# Altium footprint library currentmode_buck.PCBLIB: 19 footprints (part 2 of 2)
Each footprint in its own frame and in the unit in brackets; x right, y up, seen from the top. Pads: shape width x height; smd on the part's side, far side on the other; paste and mask are expansions set on the pad; w line width, h text height; cw(c..) or ccw(c..) is an arc to the next point about the centre after c.
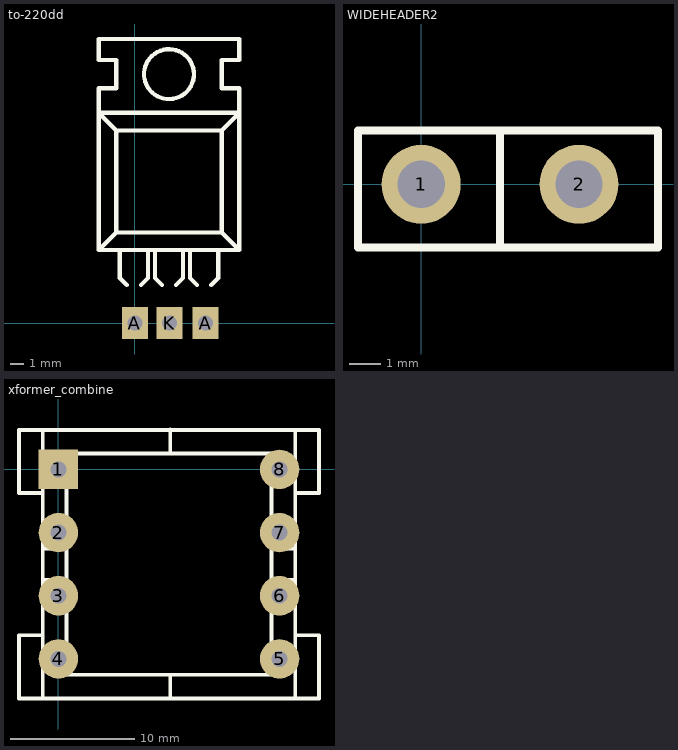
[diagram p1: the footprints below, top view; thin cyan lines are the x and y axes]

## to-220dd [mm]
pads (3):
  rect 1.9x2.3 hole 1.1: A(0,0) A(5.1,0) K(2.5,0)
TopOverlay:
  circle w0.305: c2.46,17.984 r1.803
  lines w0.305: -2.493,5.411 -1.35,6.554 ; -1.096,5.284 -1.096,3.252 -0.588,2.744 ; 0.428,2.744 0.936,3.252 0.936,5.284 ; 1.444,5.284 1.444,3.252 1.952,2.744 ; 2.968,2.744 3.476,3.252 3.476,5.284 ; 3.984,5.284 3.984,3.252 4.492,2.744 ; 5.508,2.744 6.016,3.252 6.016,5.284 ; -1.35,6.554 6.27,6.554 ; -1.35,6.554 -1.35,13.92 ; -1.35,13.92 6.27,13.92 ; -1.35,13.92 -2.62,15.19 7.54,15.19 6.27,13.92 ; 6.27,6.554 6.27,13.92 ; 6.27,6.554 7.54,5.284 ; 7.54,5.284 -2.62,5.284 -2.62,16.968 -1.35,16.968 -1.35,19 -2.62,19 -2.62,20.524 7.54,20.524 7.54,19 6.27,19 6.27,16.968 7.54,16.968 7.54,5.284

## WIDEHEADER2 [mm]
pads (2):
  round 2.5 hole 1.5: 1(0,0) 2(5,0)
TopOverlay:
  lines w0.254: 2.5,-2 2.5,1.7 ; -2,-2 -2,1.7 7.5,1.7 7.5,-2 -2,-2

## xformer_combine [mm]
pads (8):
  rect 3.175x3.175 hole 1.27: 1(0,0)
  round 3.175 hole 1.27: 2(0,-5.08) 3(0,-10.16) 4(0,-15.24) 5(17.78,-15.24) 6(17.78,-10.16) 7(17.78,-5.08) 8(17.78,0)
TopOverlay:
  lines w0.305: -1.27,-13.335 -3.175,-13.335 -3.175,-18.415 -1.27,-18.415 ; -1.27,-8.89 0.635,-8.89 ; -1.27,-6.35 -0.635,-6.35 0.635,-6.35 ; -1.27,-1.905 -3.175,-1.905 -3.175,3.175 -1.27,3.175 ; 8.992,-18.415 8.992,-16.51 ; 8.992,1.295 8.992,3.2 ; 17.145,-8.89 19.05,-8.89 ; 17.145,-6.35 19.05,-6.35 ; 19.05,-13.335 20.955,-13.335 20.955,-18.415 19.05,-18.415 ; 19.05,-1.905 20.955,-1.905 20.955,3.175 19.05,3.175 ; -1.27,-18.415 19.05,-18.415 ; -1.27,-18.415 -1.27,3.175 ; -1.27,3.175 19.05,3.175 ; 19.05,-18.415 19.05,3.175 ; 0.635,-16.51 17.145,-16.51 17.145,1.27 0.635,1.27 0.635,-16.51